# Altium footprint library sumo.PcbLib: 21 footprints (part 2 of 2)
Each footprint in its own frame and in the unit in brackets; x right, y up, seen from the top. Pads: shape width x height; smd on the part's side, far side on the other; paste and mask are expansions set on the pad; w line width, h text height; cw(c..) or ccw(c..) is an arc to the next point about the centre after c.
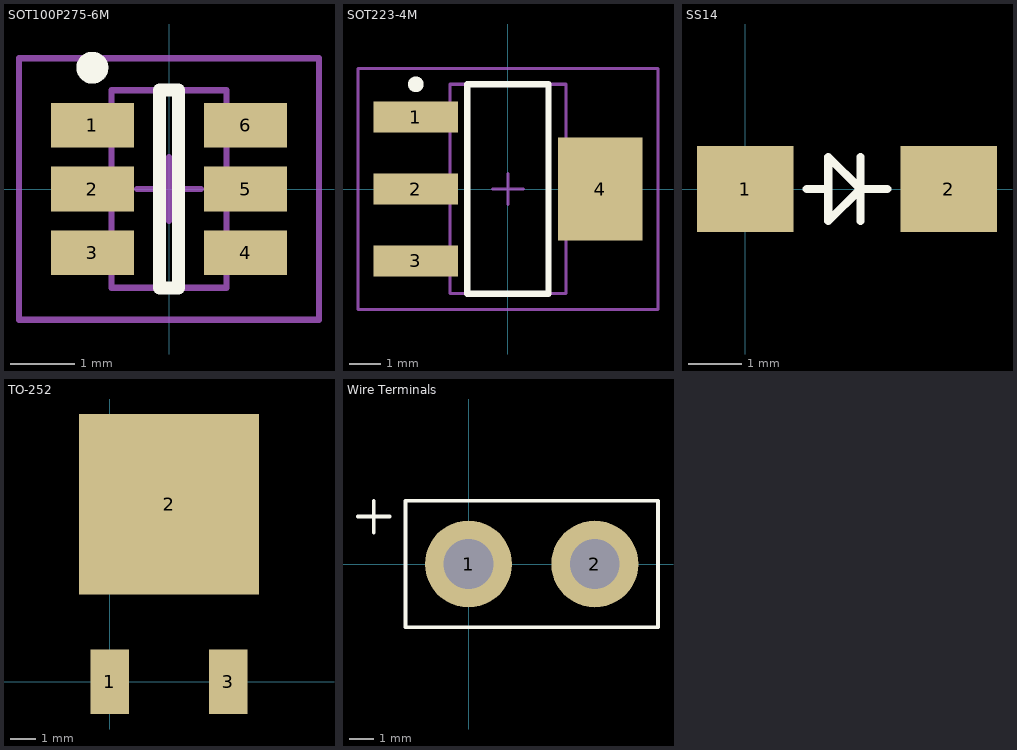
[diagram p1: the footprints below, top view; thin cyan lines are the x and y axes]

## SOT100P275-6M [mm]
pads (6):
  rect 1.3x0.7 smd: 1(-1.2,1) 2(-1.2,0) 3(-1.2,-1) 4(1.2,-1) 5(1.2,0) 6(1.2,1)
Top Overlay:
  circle w0.25: c-1.2,1.9 r0.125
  lines w0.2: -0.15,-1.55 0.15,-1.55 0.15,1.55 -0.15,1.55 -0.15,-1.55
Mechanical 13:
  lines w0.1: -0.9,-1.55 -0.9,1.55 0.9,1.55 0.9,-1.55 -0.9,-1.55
Mechanical 15:
  lines w0.1: -0.5,0 0.5,0 ; 0,-0.5 0,0.5 ; -2.35,-2.05 -2.35,2.05 2.35,2.05 2.35,-2.05 -2.35,-2.05
3D body: height 0, standoff 0, extent -0.9,-1.55 0.9,1.55

## SOT223-4M [mm] "SOT223, 4-Leads, Body 6.5x3.5mm, Pitch 2.3mm, Lead Span 7mm, IPC Low Density"
height 1.8
pads (4):
  rect 2.7x1 smd: 1(-2.95,2.3) 2(-2.95,0) 3(-2.95,-2.3)
  rect 2.7x3.3 smd: 4(2.95,0)
Top Overlay:
  circle w0.25: c-2.95,3.35 r0.125
  lines w0.2: -1.3,-3.35 1.3,-3.35 1.3,3.35 -1.3,3.35 -1.3,-3.35
Mechanical 13:
  lines w0.1: -1.85,-3.35 1.85,-3.35 1.85,3.35 -1.85,3.35 -1.85,-3.35
Mechanical 15:
  lines w0.1: -0.5,0 0.5,0 ; 0,-0.5 0,0.5 ; -4.8,-3.85 4.8,-3.85 4.8,3.85 -4.8,3.85 -4.8,-3.85
3D body: height 1.8, standoff 0, extent -1.85,-3.35 1.85,3.35

## SS14 [mm]
pads (2):
  rect 1.8x1.6 smd: 1(0,0) 2(3.8,0)
Top Overlay:
  lines w0.152: 1.15,0 1.55,0 ; 2.15,-0.6 2.15,0 ; 2.65,0 2.15,0 ; 1.55,0 1.55,-0.6 2.15,0 ; 1.55,0 1.55,0.6 2.15,0 ; 2.15,0 2.15,0.6 ; 2.15,0.6 2.15,0.6

## TO-252 [mm] "D-PAK"
pads (3):
  rect 1.5x2.5 smd: 1(0,0) 3(4.6,0)
  rect 7x7 smd: 2(2.3,6.9)

## Wire Terminals [mm]
pads (2):
  round 3.5 hole 2: 1(0,0) 2(5.08,0)
Top Overlay:
  lines w0.152: -4.445,1.905 -3.175,1.905 ; -3.81,1.27 -3.81,1.905 -3.81,2.54 ; -2.54,-2.54 7.62,-2.54 7.62,2.54 -2.54,2.54 -2.54,-2.54